# EAGLE library part ICS512 (library ICS512)
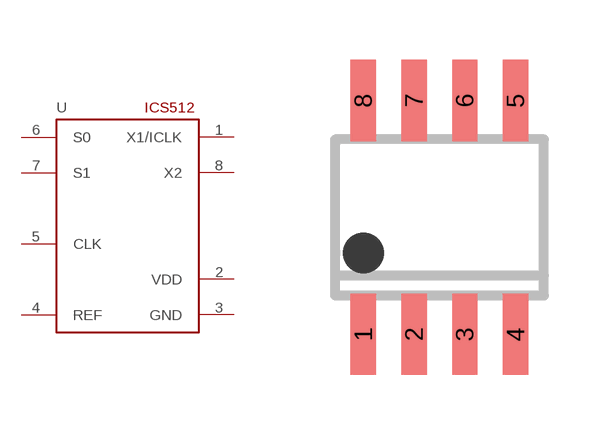
[diagram p0: symbol with the pads of ICS512; footprint ICS512]

Designator prefix -

## ICS512  [ICS512]
1  X1/ICLK
2  VDD
3  GND
4  REF
5  CLK
6  S0
7  S1
8  X2

## Footprint ICS512 (pad centres in mm)
smd 0.635 x 2.032: 1 -1.905,-2.921; 2 -0.635,-2.921; 3 0.635,-2.921; 4 1.905,-2.921; 5 1.905,2.921; 6 0.635,2.921; 7 -0.635,2.921; 8 -1.905,2.921